# EAGLE library part TTGO_ESP32_NO_DISPLAY (library TTGO_32_without_display)
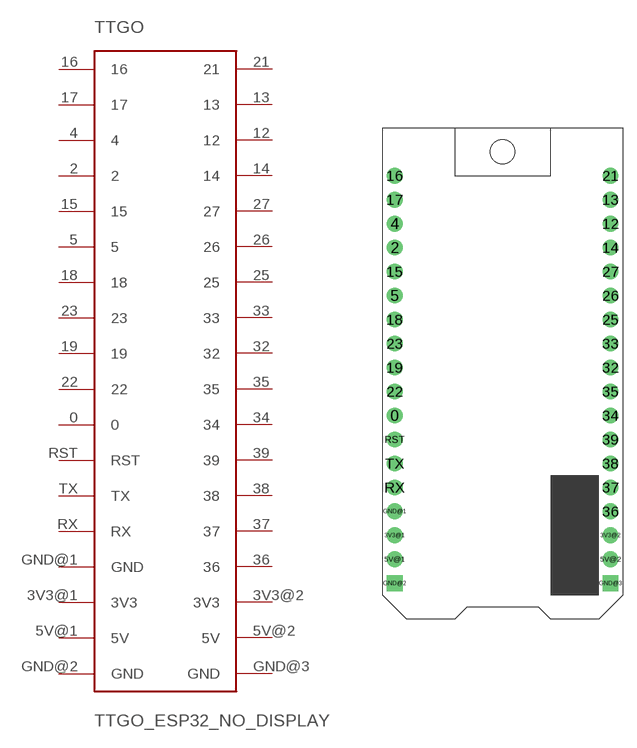
[diagram p0: symbol with the pads of TTGO_ESP32_NO_DISPLAY; footprint TTGO_ESP32_NO_DISPLAY]

Designator prefix TTGO

## TTGO_ESP32_NO_DISPLAY  [TTGO_ESP32_NO_DISPLAY]
0  0
2  2
3V3@1  3V3
3V3@2  3V3
4  4
5  5
5V@1  5V
5V@2  5V
12  12
13  13
14  14
15  15
16  16
17  17
18  18
19  19
21  21
22  22
23  23
25  25
26  26
27  27
32  32
33  33
34  34
35  35
36  36
37  37
38  38
39  39
GND@1  GND
GND@2  GND
GND@3  GND
RST  RST
RX  RX
TX  TX

## Footprint TTGO_ESP32_NO_DISPLAY (pad centres in mm)
drill 0.8 pad 1.676: 0 1.27,-30.48; 2 1.27,-12.7; 3V3@1 1.27,-43.18; 3V3@2 24.13,-43.18; 4 1.27,-10.16; 5 1.27,-17.78; 5V@1 1.27,-45.72; 5V@2 24.13,-45.72; 12 24.13,-10.16; 13 24.13,-7.62; 14 24.13,-12.7; 15 1.27,-15.24; 16 1.27,-5.08; 17 1.27,-7.62; 18 1.27,-20.32; 19 1.27,-25.4; 21 24.13,-5.08; 22 1.27,-27.94; 23 1.27,-22.86; 25 24.13,-20.32; 26 24.13,-17.78; 27 24.13,-15.24; 32 24.13,-25.4; 33 24.13,-22.86; 34 24.13,-30.48; 35 24.13,-27.94; 36 24.13,-40.64; 37 24.13,-38.1; 38 24.13,-35.56; 39 24.13,-33.02; GND@1 1.27,-40.64; RST 1.27,-33.02; RX 1.27,-38.1; TX 1.27,-35.56
drill 0.8 pad 1.676 square: GND@2 1.27,-48.26; GND@3 24.13,-48.26